# Altium footprint library F407-CORE.PcbLib: 18 footprints (part 2 of 2)
Each footprint in its own frame and in the unit in brackets; x right, y up, seen from the top. Pads: shape width x height; smd on the part's side, far side on the other; paste and mask are expansions set on the pad; w line width, h text height; cw(c..) or ccw(c..) is an arc to the next point about the centre after c.
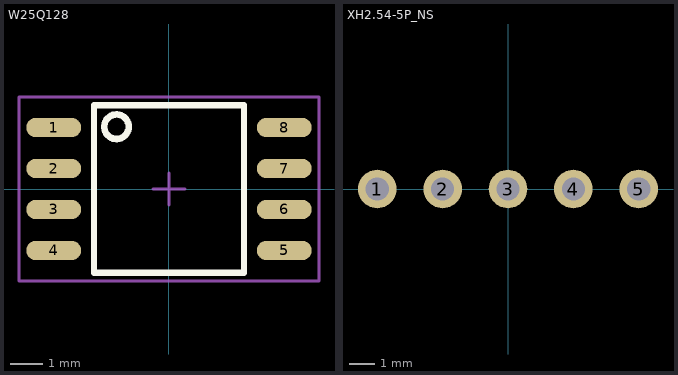
[diagram p1: the footprints below, top view; thin cyan lines are the x and y axes]

## W25Q128 [mm]
pads (8):
  oval 1.7x0.6 smd: 1(-3.575,1.905) 2(-3.575,0.635) 3(-3.575,-0.635) 4(-3.575,-1.905) 5(3.575,-1.905) 6(3.575,-0.635) 7(3.575,0.635) 8(3.575,1.905)
Top Overlay:
  circle w0.203: c-1.63,1.93 r0.381
  lines w0.2: -2.325,-2.6 -2.325,2.6 ; -2.325,-2.6 2.325,-2.6 ; -2.325,-2.6 -2.325,2.6 ; -2.325,-2.6 2.325,-2.6 ; -2.325,2.6 2.325,2.6 ; -2.325,2.6 2.325,2.6 ; 2.325,-2.6 2.325,2.6 ; 2.325,-2.6 2.325,2.6
Mechanical 16:
  lines w0.1: -0.5,0 0.5,0 ; 0,-0.5 0,0.5 ; -4.65,-2.85 -4.65,2.85 4.65,2.85 4.65,-2.85 -4.65,-2.85

## XH2.54-5P_NS [mm]
pads (5):
  round 1.5 hole 0.9: 1(-5.08,0) 2(-2.54,0) 3(0,0) 4(2.54,0) 5(5.08,0)